# EAGLE library part IEC_SW (library wheat)
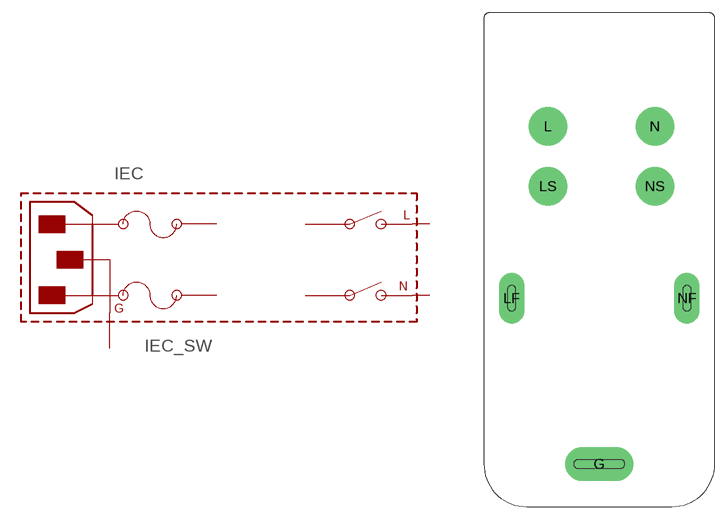
[diagram p251: symbol with the pads of IEC_SW; footprint IEC_SW]

Designator prefix IEC

## IEC_SW  [IEC_SW]
G  G  pas
L  L  pas
LF  LF  pas
LS  LS  pas
N  N  pas
NF  NF  pas
NS  NS  pas

## Footprint IEC_SW (pad centres in mm)
drill 1 pad 4 long: G 0,5
drill 3 pad 4.5: L -6,44.5; LS -6,37.5; N 6.5,44.5; NS 6.5,37.5
drill 1 pad 3 long: LF -10.25,24.4; NF 10.25,24.4